# EAGLE library part LE25U20AMB (library ICs)
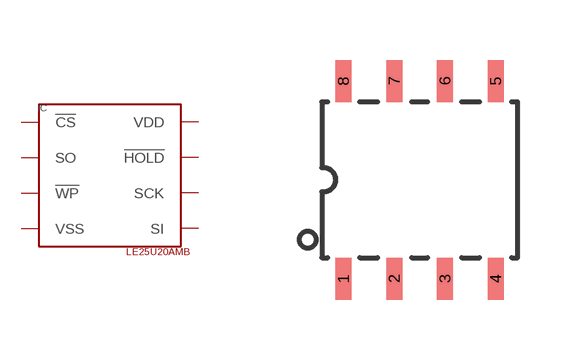
[diagram p3: symbol with the pads of SOP8K; footprint SOP8K]

Designator prefix IC

## LE25U20AMBSOP8K (MN: ON Semiconductor; MN_CODE: LE25U20AMB-AH; ORDER: DIGIKEY; ORDER_CODE: LE25U20AMB-AHOSTR-ND)  [SOP8K]
1  !CS!
2  SO
3  !WP!
4  VSS
5  SI
6  SCK
7  !HOLD!
8  VDD

## Footprint SOP8K (pad centres in mm)
smd 0.4 x 1.05: 1 -1.905,-2.475; 2 -0.635,-2.475; 3 0.635,-2.475; 4 1.905,-2.475; 5 1.905,2.475; 6 0.635,2.475; 7 -0.635,2.475; 8 -1.905,2.475